# Altium footprint library etb_drv.PcbLib: 20 footprints (part 1 of 2)
Each footprint in its own frame and in the unit in brackets; x right, y up, seen from the top. Pads: shape width x height; smd on the part's side, far side on the other; paste and mask are expansions set on the pad; w line width, h text height; cw(c..) or ccw(c..) is an arc to the next point about the centre after c.
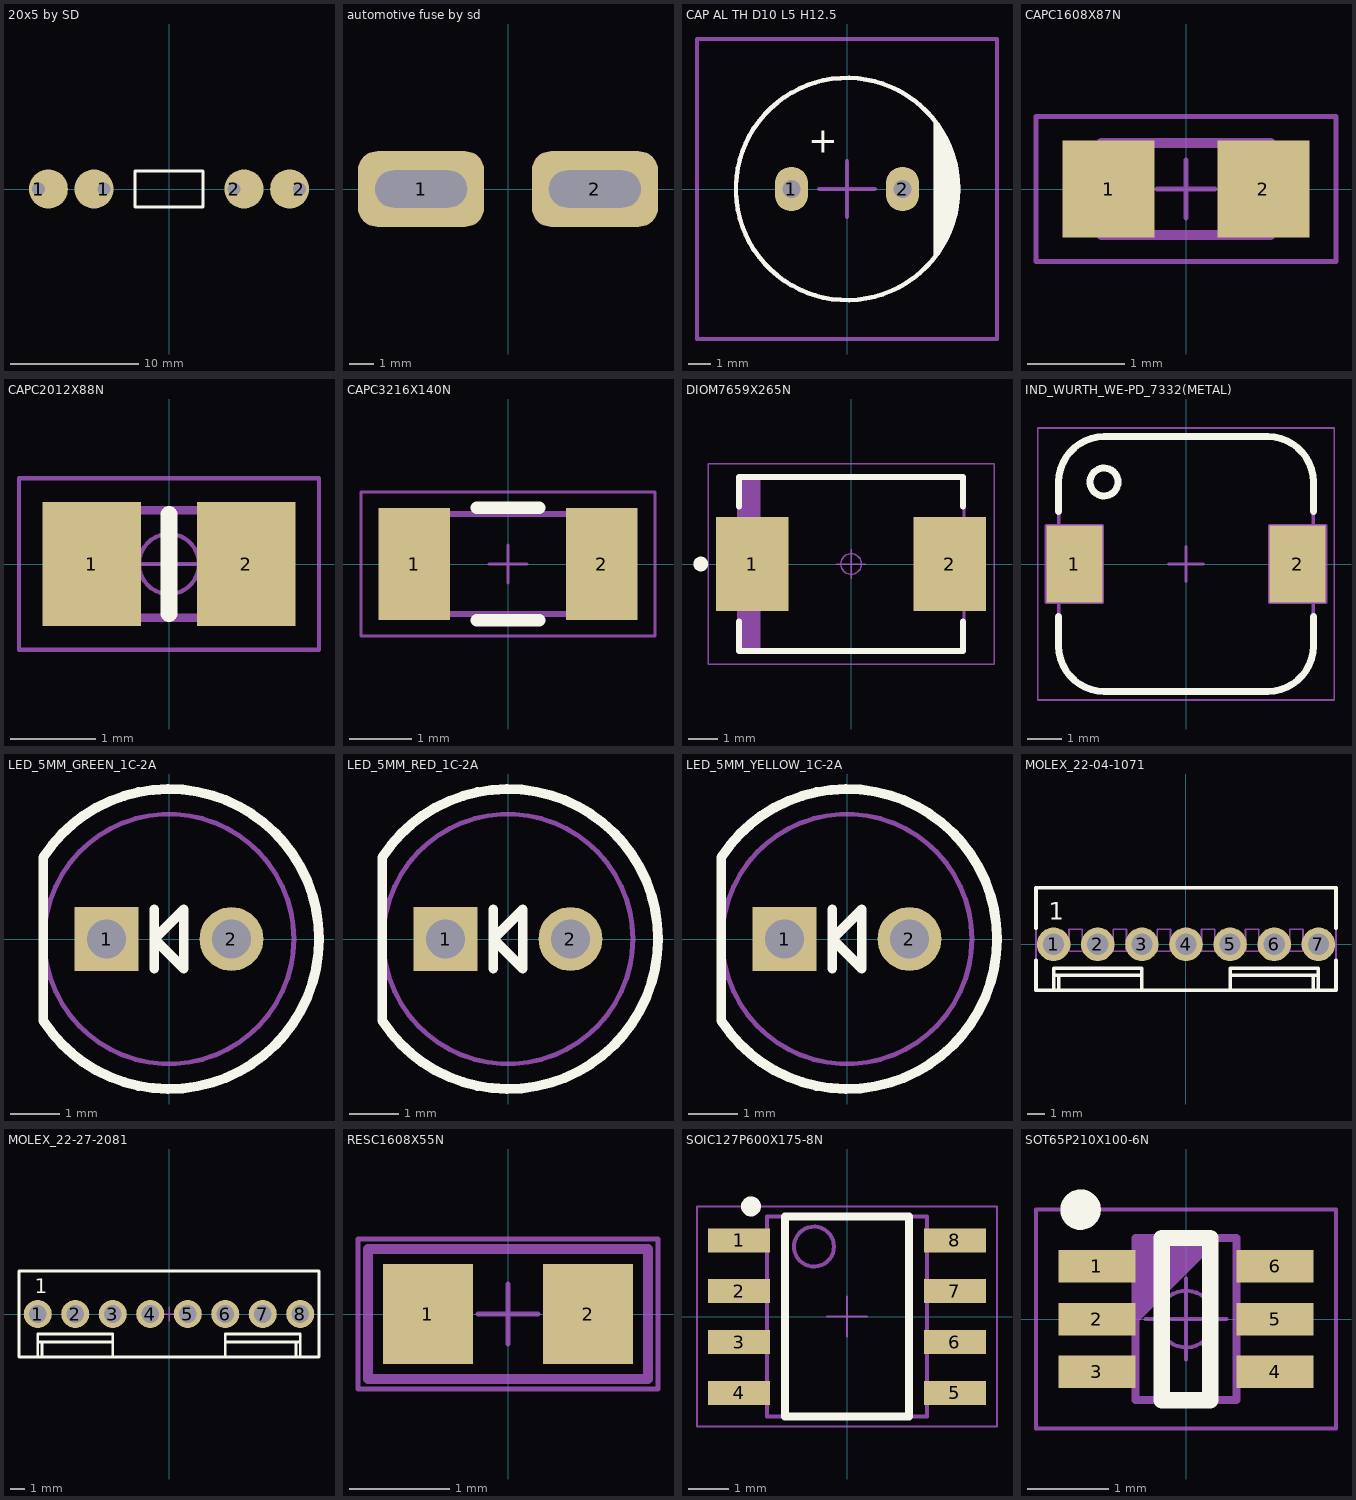
[diagram p0: the footprints below, top view; thin cyan lines are the x and y axes]

## 20x5 by SD [mil] "Thru-Hole; 2 Leads"
pads (4):
  round 120 hole 40 copper offset 30,0: 1(-400,0) 2(200,0)
  round 120 hole 40 copper offset -30,0: 1(-200,0) 2(400,0)
Top Overlay:
  lines w7.87: -104.33,-55.12 -104.33,55.12 104.33,55.12 104.33,-55.12 -104.33,-55.12
3D body "FUSE_5X20_GLASS_h_Part3.stp": height 304.33, standoff 292.52, extent -374.01,-49.21 374.02,49.22
3D body "FUSE_5X20_GLASS_h_Part2.stp": height 381.1, standoff 215.75, extent -374.01,-82.67 374.02,82.68
3D body "FUSE_5X20_GLASS_h_Part1.stp": height 396.85, standoff 200, extent -393.7,-98.42 393.7,98.43
3D body "FUSH_LITTELFUSE_520.stp": height 393.8, standoff -137.8, extent -425.98,-117.24 -189.76,117.25
3D body "FUSH_LITTELFUSE_520.stp": height 393.8, standoff -137.8, extent 189.76,-117.25 425.98,117.24

## automotive fuse by sd [mm]
pads (2):
  rrect50% 5.08x3.048 hole 1.5 slot 3.7 at 0 deg: 1(-3.5,0) 2(3.5,0)
3D body "fuse_assy.STEP": height 13, standoff -3.05, extent -6.2,-1.75 6.2,1.75

## CAP AL TH D10 L5 H12.5 [mm] "10MM Diameter, 5MM Lead Spacing Aluminium Capacitor"
height 12.5
pads (2):
  oval 1.5x2 hole 0.8: 1(-2.5,0) 2(2.5,0)
Top Overlay:
  circle w0.2: c0,0 r5
  region: 4,3 4.5,2.25 5,0.75 5,-0.75 4.75,-1.5 4.25,-2.75 4,-3
  lines w0.2: 4,-3 4,3
  text "+" at -1.75,1.25 h2
Mechanical 13:
  circle w0.2: c0,0 r5
  lines w0.2: 4,-3 4,3
Mechanical 15:
  lines w0.2: -1.25,0 1.25,0 ; 0,-1.25 0,1.25 ; -6.75,-6.75 -6.75,0 -6.75,6.75 0,6.75 6.75,6.75 6.75,0 6.75,-6.75 0,-6.75 -6.75,-6.75
3D body "CAP ALTH D-10MM L-5.0MM H-12.5MM.STEP": height 12.7, standoff -3, extent -5,-5 5,5

## CAPC1608X87N [mm] "Chip Capacitor, Body 1.6x0.8mm IPC Medium Density"
height 0.87
pads (2):
  rect 0.95x1 smd: 1(-0.8,0) 2(0.8,0)
Mechanical 14:
  lines w0.1: -0.875,-0.475 0.875,-0.475 0.875,0.475 -0.875,0.475 -0.875,-0.475
Mechanical 15:
  lines w0.05: -0.3,0 0.3,0 ; 0,-0.3 0,0.3 ; -1.55,-0.75 -1.55,0.75 1.55,0.75 1.55,-0.75 -1.55,-0.75
3D body "CAPC1608X87N.stp": height 0.87, standoff 0, extent -0.875,-0.475 0.875,0.475

## CAPC2012X88N [mm] "Chip Capacitor, Body 2.0x1.25mm, IPC Medium Density"
height 0.88
pads (2):
  rect 1.15x1.45 smd: 1(-0.9,0) 2(0.9,0)
Top Overlay:
  lines w0.2: 0,-0.575 0,0.575
Mechanical 14:
  lines w0.1: -1,-0.625 -1,0.625 1,0.625 1,-0.625 -1,-0.625
Mechanical 15:
  circle w0.05: c0,0 r0.35
  lines w0.05: -0.5,0 0.5,0 ; 0,-0.5 0,0.5 ; -1.75,-1 -1.75,1 1.75,1 1.75,-1 -1.75,-1
3D body "CAPC2012X88N.stp": height 0.9, standoff 0, extent -1.05,-0.675 1.05,0.675

## CAPC3216X140N [mm] "Chip Capacitor, Body 3.2x1.6mm, IPC Medium Density"
height 1.4
pads (2):
  rect 1.15x1.8 smd: 1(-1.5,0) 2(1.5,0)
Top Overlay:
  lines w0.2: -0.5,-0.9 0.5,-0.9 ; -0.5,0.9 0.5,0.9
Mechanical 14:
  lines w0.1: -1.6,-0.8 -1.6,0.8 1.6,0.8 1.6,-0.8 -1.6,-0.8
Mechanical 15:
  lines w0.05: -0.3,0 0.3,0 ; 0,-0.3 0,0.3 ; -2.35,-1.15 2.35,-1.15 2.35,1.15 -2.35,1.15 -2.35,-1.15
3D body "CAPC3216X140N.stp": height 1.4, standoff 0, extent -1.7,-0.9 1.7,0.9

## DIOM7659X265N [mm] "DO-214-AB/SMC Molded Diode, Body 7.95x5.9mm, IPC Medium Density"
height 2.65
pads (2):
  rect 2.45x3.2 smd: 1(-3.35,0) 2(3.35,0)
Top Overlay:
  circle w0.25: c-5.1,0 r0.125
  lines w0.2: -3.8,-1.95 -3.8,-2.95 3.8,-2.95 3.8,-1.95 ; -3.8,1.95 -3.8,2.95 3.8,2.95 3.8,1.95
Mechanical 14:
  lines w0.1: -3.725,-2.95 -3.725,2.95 ; -3.625,-2.95 -3.625,2.95 ; -3.525,-2.95 -3.525,2.95 ; -3.425,-2.95 -3.425,2.95 ; -3.325,-2.95 -3.325,2.95 ; -3.225,-2.95 -3.225,2.95 ; -3.125,-2.95 -3.125,2.95 ; -3.825,-2.95 3.825,-2.95 3.825,2.95 -3.825,2.95 -3.825,-2.95
Mechanical 15:
  circle w0.05: c0,0 r0.35
  lines w0.05: -0.5,0 0.5,0 ; 0,-0.5 0,0.5 ; -4.85,-3.4 4.85,-3.4 4.85,3.4 -4.85,3.4 -4.85,-3.4
3D body "DIOM7659X265N.stp": height 2.65, standoff 0, extent -3.975,-2.95 3.975,2.95

## IND_WURTH_WE-PD_7332(METAL) [mm] "Power Choke, WE-PD Serie, Body 7.3x7.3mm (Metal Base)"
height 3.4
pads (2):
  rect 1.6x2.2 smd: 1(-3.2,0) 2(3.2,0)
Top Overlay:
  circle w0.2: c-2.35,2.35 r0.4
  lines w0.2: -3.65,-1.5 -3.65,-2.35 ccw(c-2.35,-2.35) -2.35,-3.65 2.35,-3.65 ccw(c2.35,-2.35) 3.65,-2.35 3.65,-1.5 ; -3.65,1.5 -3.65,2.35 cw(c-2.35,2.35) -2.35,3.65 2.35,3.65 cw(c2.35,2.35) 3.65,2.35 3.65,1.5
Mechanical 8:
  lines w0.1: -3.7,0 -3.2,0 ; -3.2,-0.5 -3.2,0 ; -3.2,0.5 -3.2,0 ; -2.7,0 -3.2,0 ; -0.5,0 0,0 ; 0,-0.5 0,0 ; 0,0.5 0,0 ; 0.5,0 0,0 ; 2.7,0 3.2,0 ; 3.2,-0.5 3.2,0 ; 3.2,0.5 3.2,0 ; 3.7,0 3.2,0 ; -2.4,-1.1 -2.4,1.1 ; -2.4,-1.1 -2.4,1.1 ; -2.4,-1.1 -4,-1.1 -4,1.1 -2.4,1.1 ; 4,-1.1 4,1.1 ; 4,-1.1 4,1.1 ; 4,-1.1 2.4,-1.1 2.4,1.1 4,1.1
Mechanical 14:
  circle w0.1: c-2.35,2.35 r0.4
  lines w0.1: -3.65,-2.35 ccw(c-2.35,-2.35) -2.35,-3.65 2.35,-3.65 ccw(c2.35,-2.35) 3.65,-2.35 3.65,2.35 ccw(c2.35,2.35) 2.35,3.65 -2.35,3.65 ccw(c-2.35,2.35) -3.65,2.35 -3.65,-2.35
Mechanical 15:
  lines w0.05: -4.25,-3.9 4.25,-3.9 4.25,3.9 -4.25,3.9 -4.25,-3.9
3D body "IND_WURTH_WE-PD_7332(METAL).stp": height 3.4, standoff 0, extent -3.65,-3.65 3.65,3.65

## LED_5MM_GREEN_1C-2A [mm] "LED, Green, Body Dia. 5.08mm, Pin spacing 2.54mm"
height 9.19
pads (2):
  rect 1.3x1.3 hole 0.8: 1(-1.27,0)
  round 1.3 hole 0.8: 2(1.27,0)
Top Overlay:
  lines w0.2: -0.3,-0.6 -0.3,0.6 ; -2.558,-1.661 ccw(c0,0) -2.558,1.661 -2.558,-1.661 ; -0.3,0 0.3,-0.6 0.3,0.6 -0.3,0
Mechanical 14:
  circle w0.1: c0,0 r2.54
  lines w0.1: -0.3,-0.6 -0.3,0.6 ; -2.529,-1.706 ccw(c0,0) -2.529,1.706 -2.529,-1.706 ; -0.3,0 0.3,0.6 0.3,-0.6 -0.3,0
3D body "LED_5MM_GREEN_v.stp": height 14.34, standoff -3.5, extent -2.54,-3.049 3.05,3.049

## LED_5MM_RED_1C-2A [mm] "LED, Red, Body Dia. 5.08mm, Pin spacing 2.54mm"
height 9.19
pads (2):
  rect 1.3x1.3 hole 0.8: 1(-1.27,0)
  round 1.3 hole 0.8: 2(1.27,0)
Top Overlay:
  lines w0.2: -0.3,-0.6 -0.3,0.6 ; -2.558,-1.661 ccw(c0,0) -2.558,1.661 -2.558,-1.661 ; -0.3,0 0.3,0.6 0.3,-0.6 -0.3,0
Mechanical 14:
  circle w0.1: c0,0 r2.54
  lines w0.1: -0.3,-0.6 -0.3,0.6 ; -2.529,-1.706 ccw(c0,0) -2.529,1.706 -2.529,-1.706 ; -0.3,0 0.3,-0.6 0.3,0.6 -0.3,0
3D body "LED_5MM_RED_v.stp": height 14.34, standoff -3.5, extent -2.54,-3.049 3.05,3.049

## LED_5MM_YELLOW_1C-2A [mm] "LED, Yellow, Body Dia. 5.08mm, Pin spacing 2.54mm"
height 9.19
pads (2):
  rect 1.3x1.3 hole 0.8: 1(-1.27,0)
  round 1.3 hole 0.8: 2(1.27,0)
Top Overlay:
  lines w0.2: -0.3,-0.6 -0.3,0.6 ; -2.558,-1.661 ccw(c0,0) -2.558,1.661 -2.558,-1.661 ; -0.3,0 0.3,-0.6 0.3,0.6 -0.3,0
Mechanical 14:
  circle w0.1: c0,0 r2.54
  lines w0.1: -0.3,-0.6 -0.3,0.6 ; -2.529,-1.706 ccw(c0,0) -2.529,1.706 -2.529,-1.706 ; -0.3,0 0.3,-0.6 0.3,0.6 -0.3,0
3D body "LED_5MM_YELLOW_v.stp": height 14.34, standoff -3.5, extent -2.54,-3.049 3.05,3.049

## MOLEX_22-04-1071 [mm] "2.5mm (.100\") Pitch KK® Header, Single Row, Vertical, 7 Circuits"
height 11.7
pads (7):
  round 1.9 hole 1.2: 1(-7.5,0) 2(-5,0) 3(-2.5,0) 4(0,0) 5(2.5,0) 6(5,0) 7(7.5,0)
Top Overlay:
  lines w0.2: -8.5,-0.907 -8.5,-2.6 8.5,-2.6 8.5,-0.907 ; -8.5,0.907 -8.5,3.2 8.5,3.2 8.5,0.907 ; -7.5,-2.6 -7.5,-1.35 -2.5,-1.35 -2.5,-2.6 ; -7.5,-1.75 -2.5,-1.75 ; -7.209,-2.6 -7.209,-1.75 ; 2.5,-2.6 2.5,-1.35 7.5,-1.35 7.5,-2.6 ; 2.5,-1.75 7.5,-1.75 ; 7.209,-2.6 7.209,-1.75
  text "1" at -7.77,1.395 h1
Mechanical 8:
  lines w0.1: -8,0 -7.5,0 ; -7.5,-0.5 -7.5,0 ; -7.5,0.5 -7.5,0 ; -7,0 -7.5,0 ; -5.5,0 -5,0 ; -5,-0.5 -5,0 ; -5,0.5 -5,0 ; -4.5,0 -5,0 ; -3,0 -2.5,0 ; -2.5,-0.5 -2.5,0 ; -2.5,0.5 -2.5,0 ; -2,0 -2.5,0 ; -0.5,0 0,0 ; 0,-0.5 0,0 ; 0,0.5 0,0 ; 0.5,0 0,0 ; 2,0 2.5,0 ; 2.5,-0.5 2.5,0 ; 2.5,0.5 2.5,0 ; 3,0 2.5,0 ; 4.5,0 5,0 ; 5,-0.5 5,0 ; 5,0.5 5,0 ; 5.5,0 5,0 ; 7,0 7.5,0 ; 7.5,-0.5 7.5,0 ; 7.5,0.5 7.5,0 ; 8,0 7.5,0
Mechanical 14:
  lines w0.1: -7.5,-2.6 -7.5,-1.35 -2.5,-1.35 -2.5,-2.6 ; -7.5,-1.75 -2.5,-1.75 ; -7.209,-2.6 -7.209,-1.75 ; 2.5,-2.6 2.5,-1.35 7.5,-1.35 7.5,-2.6 ; 2.5,-1.75 7.5,-1.75 ; 7.209,-2.6 7.209,-1.75 ; -8.5,-2.6 -8.5,3.2 8.5,3.2 8.5,-2.6 -8.5,-2.6 ; -7.817,-0.318 -7.817,0.318 -7.182,0.318 -7.182,-0.318 -7.817,-0.318 ; -6.625,-0.4 -6.625,0.85 -5.875,0.85 -5.875,-0.4 -6.625,-0.4 ; -5.317,-0.318 -5.317,0.318 -4.682,0.318 -4.682,-0.318 -5.317,-0.318 ; -4.125,-0.4 -4.125,0.85 -3.375,0.85 -3.375,-0.4 -4.125,-0.4 ; -2.817,-0.318 -2.817,0.318 -2.182,0.318 -2.182,-0.318 -2.817,-0.318 ; -1.625,-0.4 -1.625,0.85 -0.875,0.85 -0.875,-0.4 -1.625,-0.4 ; -0.317,-0.318 -0.317,0.318 0.318,0.318 0.318,-0.318 -0.317,-0.318 ; 0.875,-0.4 1.625,-0.4 1.625,0.85 0.875,0.85 0.875,-0.4 ; 2.183,-0.318 2.183,0.318 2.818,0.318 2.818,-0.318 2.183,-0.318 ; 3.375,-0.4 3.375,0.85 4.125,0.85 4.125,-0.4 3.375,-0.4 ; 4.683,-0.318 5.318,-0.318 5.318,0.318 4.683,0.318 4.683,-0.318 ; 5.875,-0.4 5.875,0.85 6.625,0.85 6.625,-0.4 5.875,-0.4 ; 7.183,-0.318 7.183,0.318 7.818,0.318 7.818,-0.318 7.183,-0.318
  text "1" at -7.77,1.395 h1
3D body "MOLEX_22-04-1071.stp": height 11.7, standoff -3.4, extent -8.5,-2.6 8.5,3.2

## MOLEX_22-27-2081 [mm] "2.54mm (.100\") Pitch KK® Header, Single Row, Vertical, 8 Circuits"
height 11.7
pads (8):
  round 1.9 hole 1.2: 1(-8.89,0) 2(-6.35,0) 3(-3.81,0) 4(-1.27,0) 5(1.27,0) 6(3.81,0) 7(6.35,0) 8(8.89,0)
Top Overlay:
  lines w0.2: -8.89,-2.9 -8.89,-1.37 -3.81,-1.37 -3.81,-2.9 ; -8.89,-1.9 -3.81,-1.9 ; -8.617,-2.9 -8.617,-1.9 ; 3.81,-2.9 3.81,-1.37 8.89,-1.37 8.89,-2.9 ; 3.81,-1.9 8.89,-1.9 ; 8.617,-2.9 8.617,-1.9 ; -10.16,-2.9 -10.16,2.9 10.16,2.9 10.16,-2.9 -10.16,-2.9
  text "1" at -9.11,1.395 h1
Mechanical 8:
  lines w0.1: -9.39,0 -8.89,0 ; -8.89,-0.5 -8.89,0 ; -8.89,0.5 -8.89,0 ; -8.39,0 -8.89,0 ; -6.85,0 -6.35,0 ; -6.35,-0.5 -6.35,0 ; -6.35,0.5 -6.35,0 ; -5.85,0 -6.35,0 ; -4.31,0 -3.81,0 ; -3.81,-0.5 -3.81,0 ; -3.81,0.5 -3.81,0 ; -3.31,0 -3.81,0 ; -1.77,0 -1.27,0 ; -1.27,-0.5 -1.27,0 ; -1.27,0.5 -1.27,0 ; -0.77,0 -1.27,0 ; -0.5,0 0,0 ; 0,-0.5 0,0 ; 0,0.5 0,0 ; 0.5,0 0,0 ; 0.77,0 1.27,0 ; 1.27,-0.5 1.27,0 ; 1.27,0.5 1.27,0 ; 1.77,0 1.27,0 ; 3.31,0 3.81,0 ; 3.81,-0.5 3.81,0 ; 3.81,0.5 3.81,0 ; 4.31,0 3.81,0 ; 5.85,0 6.35,0 ; 6.35,-0.5 6.35,0 ; 6.35,0.5 6.35,0 ; 6.85,0 6.35,0 ; 8.39,0 8.89,0 ; 8.89,-0.5 8.89,0 ; 8.89,0.5 8.89,0 ; 9.39,0 8.89,0
Mechanical 14:
  lines w0.1: -8.89,-2.9 -8.89,-1.37 -3.81,-1.37 -3.81,-2.9 ; -8.89,-1.9 -3.81,-1.9 ; -8.617,-2.9 -8.617,-1.9 ; 3.81,-2.9 3.81,-1.37 8.89,-1.37 8.89,-2.9 ; 3.81,-1.9 8.89,-1.9 ; 8.617,-2.9 8.617,-1.9 ; -10.16,-2.9 -10.16,2.9 10.16,2.9 10.16,-2.9 -10.16,-2.9 ; -9.21,-0.34 -8.57,-0.34 -8.57,0.3 -9.21,0.3 -9.21,-0.34 ; -6.67,-0.34 -6.67,0.3 -6.03,0.3 -6.03,-0.34 -6.67,-0.34 ; -4.13,-0.34 -3.49,-0.34 -3.49,0.3 -4.13,0.3 -4.13,-0.34 ; -1.59,-0.34 -0.95,-0.34 -0.95,0.3 -1.59,0.3 -1.59,-0.34 ; 0.95,-0.34 0.95,0.3 1.59,0.3 1.59,-0.34 0.95,-0.34 ; 3.49,-0.34 3.49,0.3 4.13,0.3 4.13,-0.34 3.49,-0.34 ; 6.03,-0.34 6.03,0.3 6.67,0.3 6.67,-0.34 6.03,-0.34 ; 8.57,-0.34 8.57,0.3 9.21,0.3 9.21,-0.34 8.57,-0.34
  text "1" at -9.11,1.395 h1
3D body "MOLEX_22-27-2081.stp": height 11.7, standoff -3.56, extent -10.16,-2.9 10.16,2.9

## RESC1608X55N [mm] "Chip Resistor, EIA 0603, Metric 1608, Body 1.6x0.8mm, IPC Medium Density"
height 0.55
pads (2):
  rect 0.9x1 smd: 1(-0.8,0) 2(0.8,0)
Mechanical 14:
  lines w0.1: -1.4,-0.65 1.4,-0.65 1.4,0.65 -1.4,0.65 -1.4,-0.65
Mechanical 15:
  lines w0.05: -0.3,0 0.3,0 ; 0,-0.3 0,0.3 ; -1.5,-0.75 -1.5,0.75 1.5,0.75 1.5,-0.75 -1.5,-0.75
3D body "RESC1608X55N.stp": height 0.55, standoff 0, extent -0.875,-0.475 0.875,0.475

## SOIC127P600X175-8N [mm] "SOIC 8, Pitch 1.27mm - Body 4x5mm, IPC Medium Density"
height 1.75
pads (8):
  rect 1.55x0.6 smd: 1(-2.7,1.905) 2(-2.7,0.635) 3(-2.7,-0.635) 4(-2.7,-1.905) 5(2.7,-1.905) 6(2.7,-0.635) 7(2.7,0.635) 8(2.7,1.905)
Top Overlay:
  circle w0.25: c-2.4,2.755 r0.125
  lines w0.2: -1.55,-2.5 -1.55,2.5 1.55,2.5 1.55,-2.5 -1.55,-2.5
Mechanical 14:
  circle w0.1: c-0.825,1.75 r0.5
  lines w0.1: -2,-2.5 -2,2.5 2,2.5 2,-2.5 -2,-2.5
Mechanical 15:
  lines w0.05: -0.5,0 0.5,0 ; 0,-0.5 0,0.5 ; -3.75,-2.75 -3.75,2.75 3.75,2.75 3.75,-2.75 -3.75,-2.75
3D body "SOIC127P600X175-8N.stp": height 1.75, standoff 0, extent -3.1,-2.5 3.1,2.5

## SOT65P210X100-6N [mm] "SOT363, SC70-6, SOT, 0.65mm Pitch, 6 pin, 1.25mm W X 2.00mm L X 1.00mm H, IPC Medium Density"
height 1
pads (6):
  rect 0.95x0.4 smd: 1(-1.1,0.65) 2(-1.1,0) 3(-1.1,-0.65) 4(1.1,-0.65) 5(1.1,0) 6(1.1,0.65)
Top Overlay:
  circle w0.25: c-1.3,1.35 r0.125
  lines w0.2: -0.3,-1 0.3,-1 0.3,1 -0.3,1 -0.3,-1
Mechanical 14:
  lines w0.1: -0.625,0 0.375,1 ; -0.625,0.1 0.275,1 ; -0.625,0.2 0.175,1 ; -0.625,0.3 0.075,1 ; -0.625,0.4 -0.025,1 ; -0.625,0.5 -0.125,1 ; -0.625,0.6 -0.225,1 ; -0.625,0.7 -0.325,1 ; -0.625,0.8 -0.425,1 ; -0.625,0.9 -0.525,1 ; -0.625,-1 0.625,-1 0.625,1 -0.625,1 -0.625,-1
Mechanical 15:
  circle w0.05: c0,0 r0.35
  lines w0.05: -0.5,0 0.5,0 ; 0,-0.5 0,0.5 ; -1.85,-1.35 1.85,-1.35 1.85,1.35 -1.85,1.35 -1.85,-1.35
3D body "SOT65P210X100-6N.stp": height 1, standoff 0, extent -1.2,-1.1 1.2,1.1